# Altium footprint library RESC3216X71N.PcbLib: 1 footprints
Each footprint in its own frame and in the unit in brackets; x right, y up, seen from the top. Pads: shape width x height; smd on the part's side, far side on the other; paste and mask are expansions set on the pad; w line width, h text height; cw(c..) or ccw(c..) is an arc to the next point about the centre after c.
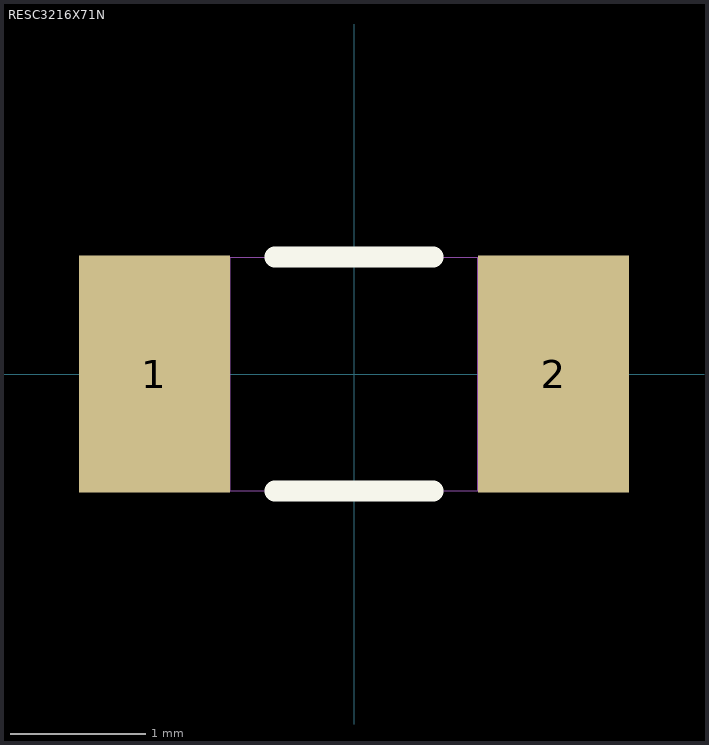
[diagram p0: the footprint, top view; thin cyan lines are the x and y axes]

## RESC3216X71N [mil]
pads (2):
  rect 44x69 smd: 1(-58,0) 2(58,0)
Top Overlay:
  lines w6: -23,-34 23,-34 ; -23,34 23,34
Assembly Top:
  lines w0: -36,-34 -36,34 ; -36,-34 -66,-34 -66,34 -36,34 ; -36,-34 36,-34 ; -36,34 36,34 ; 36,-34 36,34 ; 36,-34 66,-34 66,34 36,34
3D body "step_temp.STEP": height 25.59, standoff 0, extent -61.02,-31.5 61.02,31.5